# EAGLE library part LTC4063 (library LinearTechnology)
LTC4063 - Standalone Linear Li-Ion Charger with Micropower Low Dropout Linear Regulator The LTC®4063 is a standalone linear charger for single cell lithium-ion batteries with an adjustable low dropout linear regulator (LDO). The adjustable LDO regulates an output voltage between 1.2V to 4.2V at up to 100mA load cur- rent. When the input supply (wall adapter or USB supply) is removed, the LDO regulates the output voltage without interruption. The battery charger and LDO regulator can be enabled individually. No external sense resistor or external blocking diode is required for charging due to the internal MOSFET archi- tecture. For more details have a look at the data sheet <http://cds.linear.com/docs/en/datasheet/4063fc.pdf>. Copyright (c) 2013, Michael Hohl <http://www.michaelhohl.net>
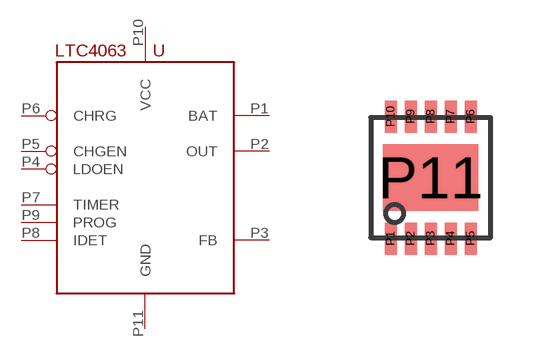
[diagram p0: symbol with the pads of LTC4063; footprint LTC4063]

Designator prefix -

## LTC4063  [LTC4063]
P1  BAT  out
P2  OUT  out
P3  FB  pas
P4  LDOEN  in
P5  CHGEN  in
P6  CHRG  out
P7  TIMER  pas
P8  IDET  pas
P9  PROG  pas
P10  VCC  pwr
P11  GND  sup

## Footprint LTC4063 (pad centres in mm)
smd 0.3 x 0.8: P1 -1,-1.525; P2 -0.5,-1.525; P3 0,-1.525; P4 0.5,-1.525; P5 1,-1.525; P6 1,1.525; P7 0.5,1.525; P8 0,1.525; P9 -0.5,1.525; P10 -1,1.525
smd 2.38 x 1.65: P11 0,0